# Altium schematic symbol library MIC23303YML-TR.SchLib: 1 symbol
Pins are listed as number, name and electrical type; pins without a type are passive.

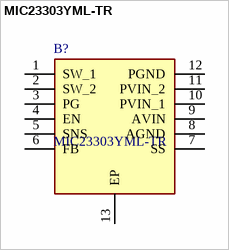
[diagram p0: symbol MIC23303YML-TR]

## MIC23303YML-TR
designator B?
Conv DC-DC 2.7V to 5.5V Synchronous Step Down Single-Out 0.65V to 3.6V 3A 12-Pin DFN EP T/R; Manufacturer_Name: Microchip; Geometry.Height: 0.9mm; Mouser Part Number: 998-MIC23303YMLTR; Mouser Price/Stock: https://www.mouser.co.uk/ProductDetail/Microchip-Technology-Micrel/MIC23303YML-TR?qs=Y3Q3JoKAO1Rutw%2FCoJCU2w%3D%3D; Manufacturer_Part_Number: MIC23303YML-TR; Datasheet Link: http://www.microchip.com/mymicrochip/filehandler.aspx?ddocname=en580343
footprint SON50P300X300X90-13N-D
pins: 1 SW_1, 2 SW_2, 3 PG, 4 EN, 5 SNS, 6 FB, 7 SS, 8 AGND, 9 AVIN, 10 PVIN_1, 11 PVIN_2, 12 PGND, 13 EP